# EAGLE library part NC7SV74K8X (library meng)
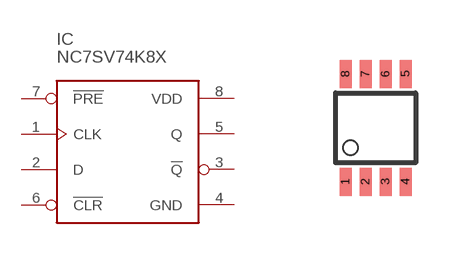
[diagram p2: symbol with the pads of US8_3.1MM_JDEC_MO-187; footprint US8_3.1MM_JDEC_MO-187]

Designator prefix IC

## NC7SV74K8X (VALUE: NC7SV74K8X)  [US8_3.1MM_JDEC_MO-187]
1  CLK
2  D
3  !Q
4  GND
5  Q
6  !CLR
7  !PRE
8  VDD

## Footprint US8_3.1MM_JDEC_MO-187 (pad centres in mm)
smd 0.3 x 0.7: 1 -0.75,-1.35; 2 -0.25,-1.35; 3 0.25,-1.35; 4 0.75,-1.35; 5 0.75,1.35; 6 0.25,1.35; 7 -0.25,1.35; 8 -0.75,1.35